# EAGLE library part LT3480 (library seb)
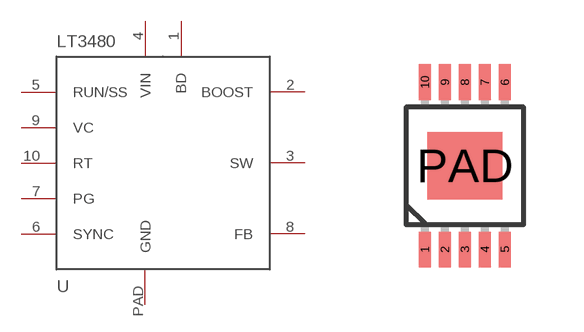
[diagram p14: symbol with the pads of MSOP10-PAD; footprint MSOP10-PAD]

Designator prefix -

## LT3480  [MSOP10-PAD]
1  BD
2  BOOST
3  SW
4  VIN
5  RUN/SS
6  SYNC
7  PG
8  FB
9  VC
10  RT
PAD  GND

## Footprint MSOP10-PAD (pad centres in mm)
smd 0.305 x 0.889: 1 -1,-2.095; 2 -0.5,-2.095; 3 0,-2.095; 4 0.5,-2.095; 5 1,-2.095; 6 1,2.095; 7 0.5,2.095; 8 0,2.095; 9 -0.5,2.095; 10 -1,2.095
smd 1.88 x 1.68: PAD 0,0